# EAGLE library part PICAXE-18M2 (library bt_pic)
PICAXE 18 pin BASIC microcontroller chip PICAXE is a neat entry-level microcontroller system that is relatively cheap to get started with. The chip is programmed with a simple serial connection and the BASIC development environment is free! PICAXE has some excellent educational applications and support, and is a great entryway into more complicated embedded systems. If you’re look for a place to start with microcontrollers, PICAXE is a great way to go! datasheet.pdf <http://www.rev-ed.co.uk/docs/picaxe_manual1.pdf>
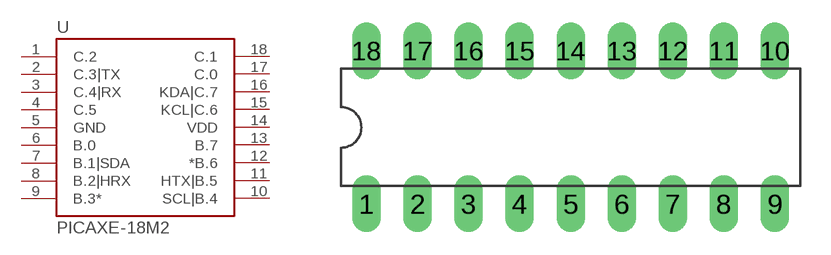
[diagram p12: symbol with the pads of DIL18; footprint DIL18]

Designator prefix U

## PICAXE-18M2  [DIL18]
1  C.2
2  C.3|TX  out
3  C.4|RX  in
4  C.5  in
5  GND  pwr
6  B.0
7  B.1|SDA
8  B.2|HRX
9  B.3*
10  SCL|B.4
11  HTX|B.5
12  *B.6
13  B.7
14  VDD  pwr
15  KCL|C.6
16  KDA|C.7
17  C.0
18  C.1

## Footprint DIL18 (pad centres in mm)
drill 0.813 pad 1.422 long: 1 -10.16,-3.81; 2 -7.62,-3.81; 3 -5.08,-3.81; 4 -2.54,-3.81; 5 0,-3.81; 6 2.54,-3.81; 7 5.08,-3.81; 8 7.62,-3.81; 9 10.16,-3.81; 10 10.16,3.81; 11 7.62,3.81; 12 5.08,3.81; 13 2.54,3.81; 14 0,3.81; 15 -2.54,3.81; 16 -5.08,3.81; 17 -7.62,3.81; 18 -10.16,3.81